# Altium footprint library PCB3.PcbLib: 8 footprints
Each footprint in its own frame and in the unit in brackets; x right, y up, seen from the top. Pads: shape width x height; smd on the part's side, far side on the other; paste and mask are expansions set on the pad; w line width, h text height; cw(c..) or ccw(c..) is an arc to the next point about the centre after c.
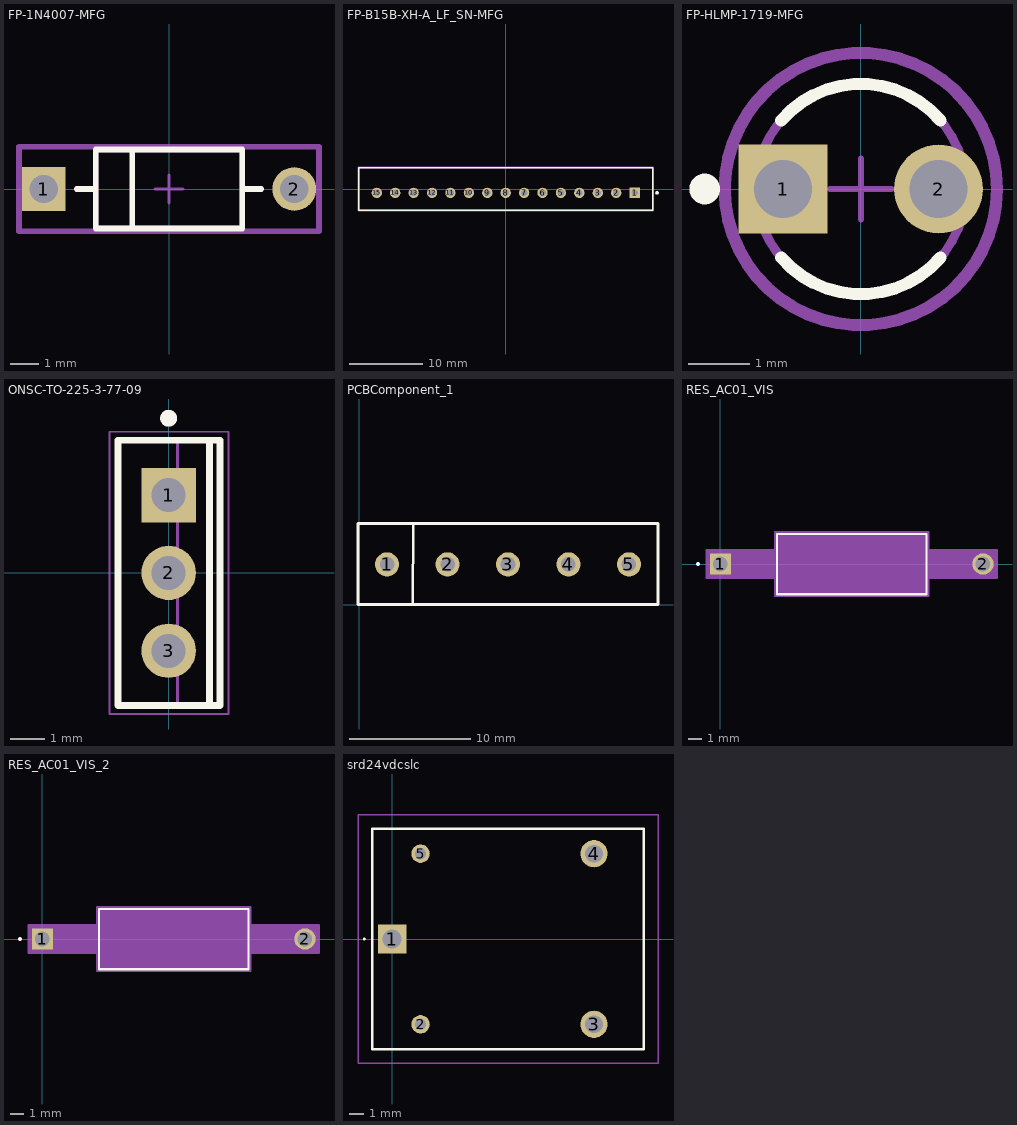
[diagram p0: the footprints below, top view; thin cyan lines are the x and y axes]

## FP-1N4007-MFG [mm]
pads (2):
  rect 1.55x1.55 hole 1 paste-1000 mask+0: 1(-4.44,0)
  round 1.55 hole 1 paste-1000 mask+0: 2(4.44,0)
Top Overlay:
  lines w0.2: -3.265,0 -2.6,0 ; -1.3,-1.33 -1.3,1.33 ; 2.6,0 3.265,0 ; -2.6,-1.4 2.6,-1.4 2.6,1.4 -2.6,1.4 -2.6,-1.4
Top Assembly:
  lines w0.2: -5.315,-1.5 5.315,-1.5 5.315,1.5 -5.315,1.5 -5.315,-1.5
  text ".Designator" at 0,0.188 h1
Top 3D Body:
  lines w0.2: -2.6,-1.4 2.6,-1.4 2.6,1.4 -2.6,1.4 -2.6,-1.4
Top Courtyard:
  lines w0.2: -5.315,-1.5 5.315,-1.5 5.315,1.5 -5.315,1.5 -5.315,-1.5
Top Component Center:
  lines w0.1: -0.5,0 0.5,0 ; 0,-0.5 0,0.5
3D body "Diode_Diotec_1N4007_eec.STEP": height 0.25, standoff 0, extent -5.315,-1.5 5.315,1.5

## FP-B15B-XH-A_LF_SN-MFG [mm]
pads (15):
  rect 1.4x1.4 hole 0.9 paste-1000 mask+0: 1(17.5,-0.525)
  round 1.4 hole 0.9 paste-1000 mask+0: 2(15,-0.525) 3(12.5,-0.525) 4(10,-0.525) 5(7.5,-0.525) 6(5,-0.525) 7(2.5,-0.525) 8(0,-0.525) 9(-2.5,-0.525) 10(-5,-0.525) 11(-7.5,-0.525) 12(-10,-0.525) 13(-12.5,-0.525) 14(-15,-0.525) 15(-17.5,-0.525)
Top Overlay:
  circle w0.25: c20.55,-0.525 r0.125
  lines w0.2: -19.95,-2.875 -19.95,2.875 19.95,2.875 19.95,-2.875 -19.95,-2.875
Top Assembly:
  lines w0.2: -20.05,-2.975 -20.05,2.975 20.05,2.975 20.05,-2.975 -20.05,-2.975
  text ".Designator" at 0,0.188 h1
Top 3D Body:
  lines w0.2: -19.95,-2.875 -19.95,2.875 19.95,2.875 19.95,-2.875 -19.95,-2.875
Top Courtyard:
  lines w0.2: -20.05,-2.975 -20.05,2.975 20.05,2.975 20.05,-2.975 -20.05,-2.975
Top Component Center:
  lines w0.1: -0.5,0 0.5,0 ; 0,-0.5 0,0.5
3D body "Conn_JST_B15B-XH-A_LF_SN_eec.STEP": height 0.25, standoff 0, extent -20.05,-2.975 20.05,2.975

## FP-HLMP-1719-MFG [mm]
pads (2):
  rect 1.45x1.45 hole 0.95 paste-1000 mask+0: 1(-1.27,0)
  round 1.45 hole 0.95 paste-1000 mask+0: 2(1.27,0)
Top Overlay:
  circle w0.25: c-2.55,0 r0.125
  lines w0.2: -1.3,-1.12 ccw(c0,-0.001) 1.3,-1.12 ; -1.3,1.12 cw(c0,0.001) 1.3,1.12
Top Assembly:
  text ".Designator" at 0,0.188 h1
Top 3D Body:
  circle w0.15: c0,0 r1.715
Top Courtyard:
  lines w0.2: -2.223,0 ccw(c0,0) 2.223,0 ccw(c0,0) -2.223,0
Top Component Center:
  lines w0.1: -0.5,0 0.5,0 ; 0,-0.5 0,0.5
3D body "Diode_Broadcom_HLMP-1719_eec.STEP": height 0.25, standoff 0, extent -2.223,-2.223 2.223,2.223

## ONSC-TO-225-3-77-09 [mm] "FM, 3-Leads, Body 7.8x3mm, Pitch 2.29mm"
height 13.64
pads (3):
  rect 1.6x1.6 hole 1: 1(0,2.29)
  round 1.6 hole 1: 2(0,0) 3(0,-2.29)
Top Overlay:
  circle w0.25: c0,4.55 r0.125
  lines w0.2: 1.2,-3.9 1.2,3.9 ; -1.49,-3.9 -1.49,3.9 1.51,3.9 1.51,-3.9 -1.49,-3.9
Top 3D Body:
  lines w0.1: 0.26,-3.9 0.26,3.9 ; -1.49,-3.9 1.51,-3.9 1.51,3.9 -1.49,3.9 -1.49,-3.9
Top Courtyard:
  lines w0.05: -1.74,-4.15 1.76,-4.15 1.76,4.15 -1.74,4.15 -1.74,-4.15
  lines w0.1: -0.5,0 0.5,0 ; 0,-0.5 0,0.5
3D body: height 13.64, standoff 13.64, extent 0.26,-3.8 1.51,3.8
3D body: height 13.64, standoff 1.27, extent -1.49,-3.9 1.51,3.9
3D body: height 0, standoff -1.6, extent -0.255,-2.665 0.255,-1.915
3D body: height 1.27, standoff 0, extent -0.255,-2.84 0.255,-1.74
3D body: height 0, standoff -1.6, extent -0.255,-0.375 0.255,0.375
3D body: height 1.27, standoff 0, extent -0.255,-0.55 0.255,0.55
3D body: height 0, standoff -1.6, extent -0.255,1.915 0.255,2.665
3D body: height 1.27, standoff 0, extent -0.255,1.74 0.255,2.84

## PCBComponent_1 [mm]
pads (5):
  round 2 hole 1.2: 1(2.314,3.352) 2(7.314,3.352) 3(12.314,3.352) 4(17.314,3.352) 5(22.314,3.352)
Top Overlay:
  lines w0.2: 4.444,0.042 4.474,6.732
  lines w0.254: -0.086,0.022 -0.086,6.752 24.714,6.752 24.714,0.022 -0.086,0.022

## RES_AC01_VIS [mil]
pads (2):
  rect 63x63 / inner round 60 / far side rect 63x63 hole 43 paste-31.5 mask+0: 1(0,0)
  round 63 / inner round 60 / far side round 63 hole 43 paste-31.5 mask+0: 2(777,0)
Top Overlay:
  circle w6: c-66.5,0 r3
  lines w6: 167,-89.5 167,89.5 610,89.5 610,-89.5 167,-89.5
Top 3D Body:
  circle w0: c182,0 r3
  lines w1: 0,0 172,0 ; 605,0 777,0 ; 172,-84.5 172,84.5 605,84.5 605,-84.5 172,-84.5
Top Courtyard:
  region: 162,-41.5 -41.5,-41.5 -41.5,41.5 162,41.5 162,94.5 615,94.5 615,41.5 818.5,41.5 818.5,-41.5 615,-41.5 615,-94.5 162,-94.5
  lines w6: -41.5,-41.5 162,-41.5 162,-94.5 615,-94.5 615,-41.5 818.5,-41.5 818.5,41.5 615,41.5 615,94.5 162,94.5 162,41.5 -41.5,41.5 -41.5,-41.5
3D body "RES_AC01_VIS.step": height 169.06, standoff -100, extent -16.5,-84.14 793.5,84.14

## RES_AC01_VIS_2 [mil]
pads (2):
  rect 63x63 / inner round 60 / far side rect 63x63 hole 43 paste-31.5 mask+0: 1(0,0)
  round 63 / inner round 60 / far side round 63 hole 43 paste-31.5 mask+0: 2(777,0)
Top Overlay:
  circle w6: c-66.5,0 r3
  lines w6: 167,-89.5 167,89.5 610,89.5 610,-89.5 167,-89.5
Top 3D Body:
  circle w0: c182,0 r3
  lines w1: 0,0 172,0 ; 605,0 777,0 ; 172,-84.5 172,84.5 605,84.5 605,-84.5 172,-84.5
Top Courtyard:
  region: 162,-41.5 -41.5,-41.5 -41.5,41.5 162,41.5 162,94.5 615,94.5 615,41.5 818.5,41.5 818.5,-41.5 615,-41.5 615,-94.5 162,-94.5
  lines w6: -41.5,-41.5 162,-41.5 162,-94.5 615,-94.5 615,-41.5 818.5,-41.5 818.5,41.5 615,41.5 615,94.5 162,94.5 162,41.5 -41.5,41.5 -41.5,-41.5
3D body "RES_AC01_VIS.step": height 169.06, standoff -100, extent -16.5,-84.14 793.5,84.14

## srd24vdcslc [mm]
pads (5):
  rect 2.01x2.01 hole 1.34: 1(0,0)
  round 1.3 hole 0.8: 2(2,-6) 5(2,6)
  round 1.92 hole 1.24: 3(14.2,-6) 4(14.2,6)
Top Overlay:
  lines w0.1: -2,0 ccw(c-1.95,0) -1.9,0 ccw(c-1.95,0) -2,0
  lines w0.2: -1.4,-7.75 17.7,-7.75 17.7,7.75 -1.4,7.75 -1.4,-7.75
Top 3D Body:
  lines w0.1: -1.4,-7.75 17.7,-7.75 17.7,7.75 -1.4,7.75 -1.4,-7.75
Top Courtyard:
  lines w0.1: -2.4,-8.75 18.7,-8.75 18.7,8.75 -2.4,8.75 -2.4,-8.75
3D body "srd-24vdc-sl-c.stp": height 15.4, standoff -5, extent -1.4,-7.75 17.7,7.75